# EAGLE library part A8904SLP (library Gyros)
Three-Phase Brushless DC Motor Controller/Driver with Back-EMF Sensing For sensorless motors, uses back-EMF sensing instead of hall effect sensors for commutation. Temp range -20 to 85 C
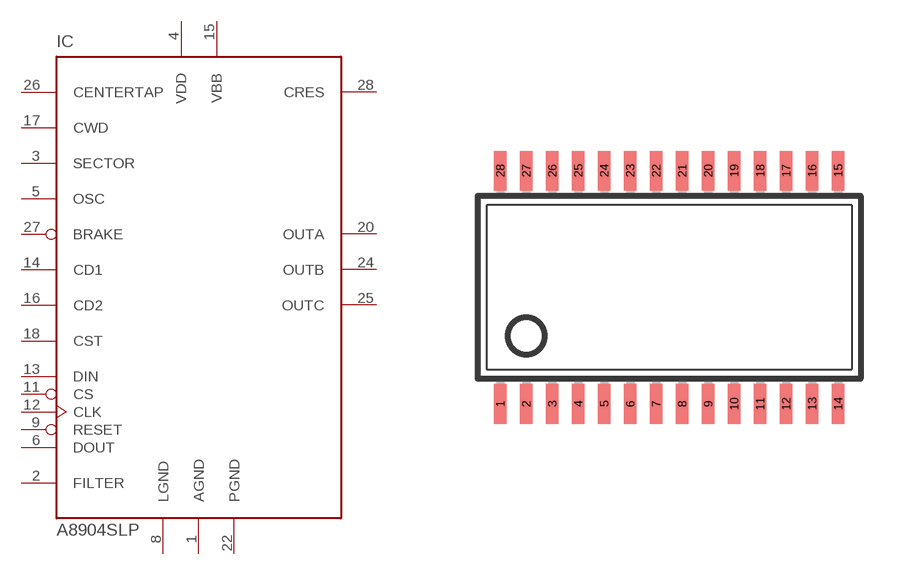
[diagram p16: symbol with the pads of TSSOP28; footprint TSSOP28]

Designator prefix IC

## A8904SLP  [TSSOP28]
1  AGND  pwr
2  FILTER  in
3  SECTOR  in
4  VDD  pwr
5  OSC  in
6  DOUT  out
8  LGND  pwr
9  RESET  in
11  CS  in
12  CLK  in
13  DIN  in
14  CD1  in
15  VBB  pwr
16  CD2  in
17  CWD  in
18  CST  in
20  OUTA  out
22  PGND  pwr
24  OUTB  out
25  OUTC  out
26  CENTERTAP  in
27  BRAKE  in
28  CRES

## Footprint TSSOP28 (pad centres in mm)
28-pin Thin Shrink Small Outline Package
smd 0.305 x 0.991: 1 -4.225,-2.918; 2 -3.575,-2.918; 3 -2.925,-2.918; 4 -2.275,-2.918; 5 -1.625,-2.918; 6 -0.975,-2.918; 7 -0.325,-2.918; 8 0.325,-2.918; 9 0.975,-2.918; 10 1.625,-2.918; 11 2.275,-2.918; 12 2.925,-2.918; 13 3.575,-2.918; 14 4.225,-2.918; 15 4.225,2.918; 16 3.575,2.918; 17 2.925,2.918; 18 2.275,2.918; 19 1.625,2.918; 20 0.975,2.918; 21 0.325,2.918; 22 -0.325,2.918; 23 -0.975,2.918; 24 -1.625,2.918; 25 -2.275,2.918; 26 -2.925,2.918; 27 -3.575,2.918; 28 -4.225,2.918